# EAGLE library part SI514 (library lupa300-components)
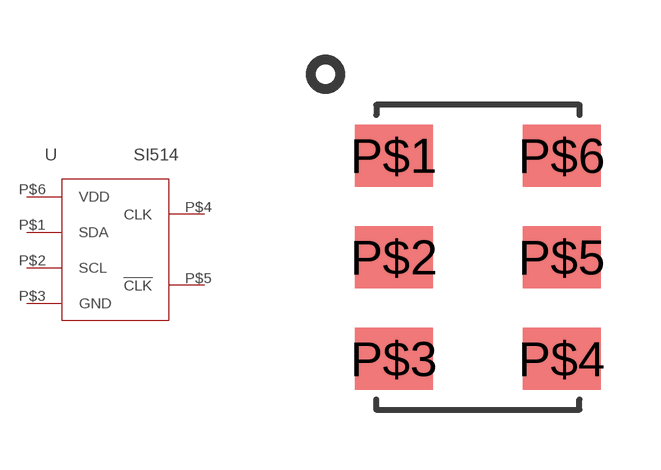
[diagram p1: symbol with the pads of XTAL-6PIN; footprint XTAL-6PIN]

Designator prefix -

## SI514  [XTAL-6PIN]
P$1  SDA
P$2  SCL
P$3  GND
P$4  CLK
P$5  !CLK
P$6  VDD

## Footprint XTAL-6PIN (pad centres in mm)
smd 1.95 x 1.55: P$1 -2.1,2.54; P$2 -2.1,0; P$3 -2.1,-2.54; P$4 2.1,-2.54; P$5 2.1,0; P$6 2.1,2.54